# Altium footprint library LED BLINKING FOOTPRINT.PcbLib: 4 footprints
Each footprint in its own frame and in the unit in brackets; x right, y up, seen from the top. Pads: shape width x height; smd on the part's side, far side on the other; paste and mask are expansions set on the pad; w line width, h text height; cw(c..) or ccw(c..) is an arc to the next point about the centre after c.
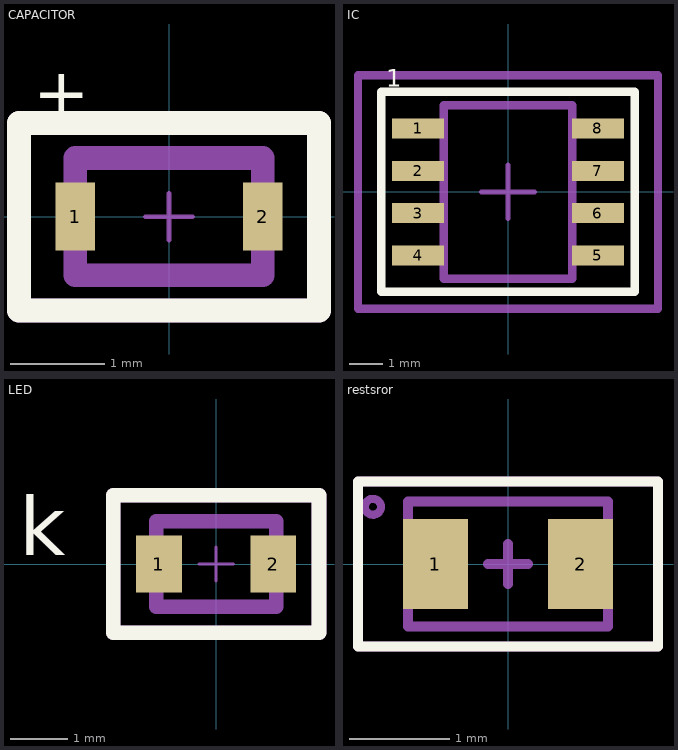
[diagram p0: the footprints below, top view; thin cyan lines are the x and y axes]

## CAPACITOR [mm]
pads (2):
  rect 0.425x0.725 smd: 1(-1,0) 2(1,0)
Top Overlay:
  lines w0.254: -1.6,-1 1.6,-1 1.6,1 -1.6,1 -1.6,-1
  text "+" at -1.446,1.067 h0.52
Top Component Center:
  lines w0.05: -0.25,0 0.25,0 ; 0,-0.25 0,0.25
Top Assembly:
  lines w0.254: -1,-0.625 1,-0.625 1,0.625 -1,0.625 -1,-0.625
  text "+" at -1.946,0.592 h0.52
Top Courtyard:
  lines w0.254: -1.6,-1 1.6,-1 1.6,1 -1.6,1 -1.6,-1
3D body "08055C101JAT4A.STEP": height 0.94, standoff 0, extent -1.005,-0.625 1.005,0.625

## IC [mm] "soic-8"
pads (8):
  rect 1.55x0.6 smd: 1(-2.7,1.905) 2(-2.7,0.635) 3(-2.7,-0.635) 4(-2.7,-1.905) 5(2.7,-1.905) 6(2.7,-0.635) 7(2.7,0.635) 8(2.7,1.905)
Top Overlay:
  lines w0.254: -3.8,-3 3.8,-3 3.8,3 -3.8,3 -3.8,-3
  text "1" at -3.646,3.154 h0.52
Top Component Center:
  lines w0.154: -0.8,0 0.8,0 ; 0,-0.8 0,0.8
Top Assembly:
  lines w0.254: -1.925,-2.6 1.925,-2.6 1.925,2.6 -1.925,2.6 -1.925,-2.6
  text "o" at -1.607,1.944 h0.52
Top Courtyard:
  lines w0.254: -4.5,-3.5 -4.5,3.5 4.5,3.5 4.5,-3.5 -4.5,-3.5
3D body "LT1021DCS8-5#TRPBF.STEP": height 1.75, standoff 0, extent -2.997,-2.451 2.997,2.451

## LED [mm]
pads (2):
  rect 0.8x1 smd: 1(-1,0) 2(1,0)
Top Overlay:
  lines w0.254: -1.8,-1.2 1.8,-1.2 1.8,1.2 -1.8,1.2 -1.8,-1.2
  text "k" at -3.446,0.154 h1.02
Top Component Center:
  lines w0.054: -0.3,0 0.3,0 ; 0,-0.3 0,0.3
Top Assembly:
  lines w0.254: -1.05,-0.75 1.05,-0.75 1.05,0.75 -1.05,0.75 -1.05,-0.75
  text "k" at -2.046,0.054 h0.52
Top Courtyard:
  lines w0.254: -1.8,-1.2 1.8,-1.2 1.8,1.2 -1.8,1.2 -1.8,-1.2
3D body "KP-1608SURCK.STEP": height -0.36, standoff -1.46, extent -0.74,-0.369 0.86,0.431

## restsror [mm]
pads (2):
  rect 0.65x0.9 smd: 1(-0.725,0) 2(0.725,0)
Top Overlay:
  lines w0.1: -1.5,-0.825 -1.5,0.825 -0.8,0.825 1.5,0.825 1.5,-0.825 -1.5,-0.825
Top Component Center:
  lines w0.1: -0.2,0 0,0 ; 0,-0.2 0,0 ; 0,0.2 0,0 ; 0.2,0 0,0
Top Assembly:
  circle w0.08: c-1.35,0.572 r0.08
  lines w0.1: -1,-0.625 1,-0.625 1,0.625 -1,0.625 -1,-0.625
Top Courtyard:
  lines w0.1: -1.5,-0.825 -1.5,0.825 1.5,0.825 1.5,-0.825 -1.5,-0.825
3D body "RC0603N_PAN.step": height 0.41, standoff -0.3, extent -0.8,-0.4 0.8,0.4